# Altium schematic symbol library Maypole_V1.2.SCHLIB: 38 symbols
Pins are listed as number, name and electrical type; pins without a type are passive.

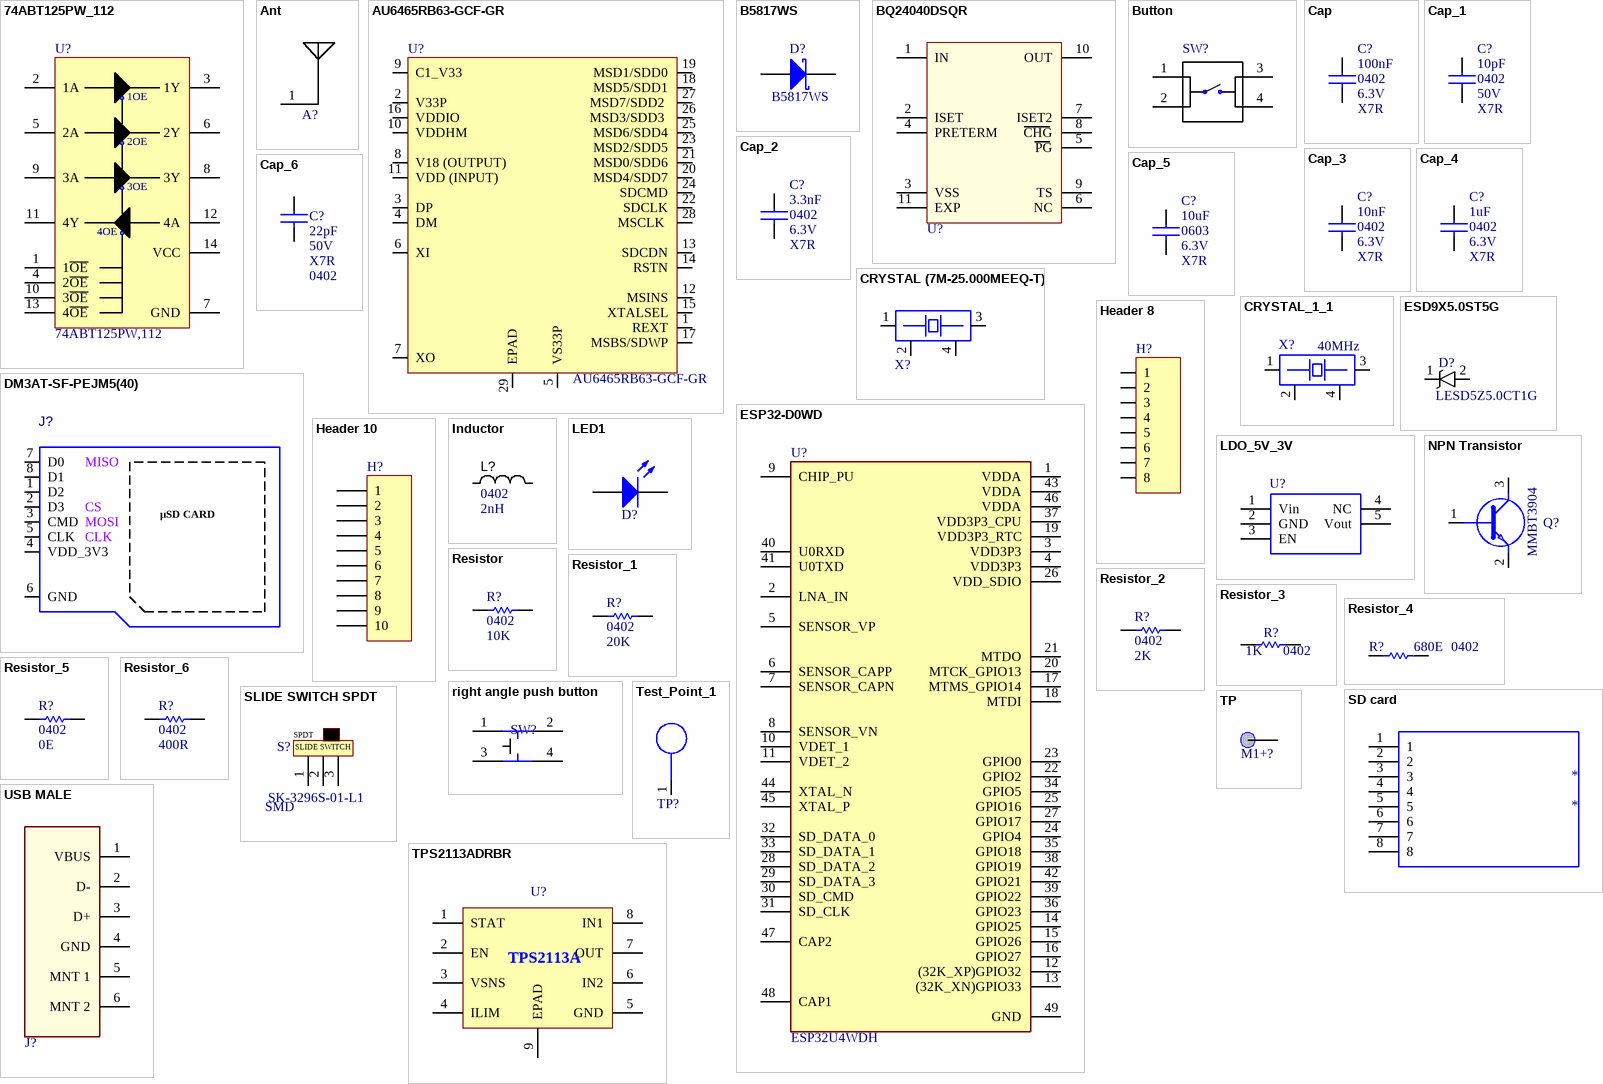
[diagram p0: symbols 74ABT125PW_112 to USB MALE]

## 74ABT125PW_112
designator U?  Manufacturer Part Number: 74ABT125PW,112
Buffers & Line Drivers QUAD BUFFER 3-S; Manufacturer_Name: Nexperia; Case/Package: 14-TSSOP
footprint 74ABT125PW
pins: 1 1~{OE}, 2 1A, 3 1Y, 4 2~{OE}, 5 2A, 6 2Y, 7 GND, 8 3Y, 9 3A, 10 3~{OE}, 11 4Y, 12 4A, 13 4~{OE}, 14 VCC
text: 1OE; 2OE; 3OE; 4OE

## Ant
designator A?  (value not drawn)
SMD,2.1x5.2mm Antennas ROHS; Manufacturer Part Number: SLDA52-2R710G-S1TF; Case/Package: SMD
footprint ANT-SMD_L5.2-W2.1
pins: 1 Ant

## AU6465RB63-GCF-GR
designator U?  Manufacturer Part Number: AU6465RB63-GCF-GR
Controller QFN-28-EP(5x5) USB ICs ROHS; Case/Package: QFN-28-EP(5x5)
footprint AU6465RB63-GCF-GR
pins: 1 REXT, 2 V33P, 3 DP, 4 DM, 5 VS33P , 6 XI, 7 XO, 8 V18 (OUTPUT), 9 C1_V33, 10 VDDHM, 11 VDD (INPUT), 12 MSINS, 13 SDCDN, 14 RSTN, 15 XTALSEL, 16 VDDIO , 17 MSBS/SDWP, 18 MSD5/SDD1, 19 MSD1/SDD0, 20 MSD4/SDD7, 21 MSD0/SDD6, 22 SDCLK, 23 MSD2/SDD5, 24 SDCMD, 25 MSD6/SDD4, 26 MSD3/SDD3 , 27 MSD7/SDD2 , 28 MSCLK , 29 EPAD

## B5817WS
designator D?  Manufacturer Part Number: B5817WS
20V 1A 450mV @ 1A SOD-323 Schottky Barrier Diodes (SBD) RoHS; Case/Package: SOD-323
footprint SOD-323
pins: A, K

## BQ24040DSQR
designator U?
IC BATT CHG LI-ION 1 CELL 10SON; Manufacturer: Texas Instruments; Manufacturer Part Number: BQ24040DSQR; Supplier 1: Digi-Key; Stock 1: 20950; Pricing 1: 1=1.26, 10=1.124, 25=1.0672, 100=0.8194, 250=0.7241, 500=0.686, 1000=0.5335 (USD); Number of Pins: 10; Case/Package: WSON-10; ComponentLink1URL: http://www.ti.com/lit/pdf/slyt420?src-supplier=Digi-Key; ComponentLink1Description: http://www.ti.com/lit/pdf/slyt420?src-supplier=Digi-Key; ComponentLink2URL: http://www.ti.com/general/docs/suppproductinfo.tsp?distId=10&gotoUrl=http%3A%2F%2Fwww.ti.com%2Flit%2Fgpn%2Fbq24040&src-supplier=Digi-Key; ComponentLink2Description: http://www.ti.com/general/docs/suppproductinfo.tsp?distId=10&gotoUrl=http%3A%2F%2Fwww.ti.com%2Flit%2Fgpn%2Fbq24040&src-supplier=Digi-Key; ComponentLink3URL: http://datasheet.iiic.cc/texas_instruments/BQ24040DSQR.pdf?src-supplier=IIIC; ComponentLink3Description: http://datasheet.iiic.cc/texas_instruments/BQ24040DSQR.pdf?src-supplier=IIIC
footprint WFDFN-10
pins: 1 IN, 2 ISET, 3 VSS, 4 PRETERM, 5 PG, 6 NC, 7 ISET2, 8 CHG, 9 TS, 10 OUT, 11 EXP

## Button
designator SW?
6mm 5mm Round Button 50mA Straight 6mm SPST 12V Plugin Tactile Switches ROHS; Manufacturer Part Number: TS-1809SM-C; Case/Package: SMD; Value: *
footprint SW_Micro Push Button 4 PAD
footprint TS-1809SM-C
pins: 1, 2, 3, 4

## Cap
designator C?  value 100nF  Voltage: 6.3V  Dielectric: X7R  Case/Package: 0402
CAP CER 100nF 6.3V X7R 0402; Manufacturer Part Number: *
simulation model CAP (Capacitor)
signal-integrity model Cap Pol
footprint CAPC0402
pins: 1, 2
1 alternate drawing of the same symbol

## Cap_1
designator C?  value 10pF  Voltage: 50V  Dielectric: X7R  Case/Package: 0402
CAP CER 10pF 50V X7R 0402; Manufacturer Part Number: *
simulation model CAP (Capacitor)
signal-integrity model Cap Pol
footprint CAPC0402
pins: 1, 2
1 alternate drawing of the same symbol

## Cap_2
designator C?  value 3.3nF  Voltage: 6.3V  Dielectric: X7R  Case/Package: 0402
CAP CER 3.3nF 6.3V X7R 0402; Manufacturer Part Number: *
simulation model CAP (Capacitor)
signal-integrity model Cap Pol
footprint CAPC0402
pins: 1, 2
1 alternate drawing of the same symbol

## Cap_3
designator C?  value 10nF  Voltage: 6.3V  Dielectric: X7R  Case/Package: 0402
CAP CER 10nF 6.3V X7R 0402; Manufacturer Part Number: *
simulation model CAP (Capacitor)
signal-integrity model Cap Pol
footprint CAPC0402
pins: 1, 2
1 alternate drawing of the same symbol

## Cap_4
designator C?  value 1uF  Voltage: 6.3V  Dielectric: X7R  Case/Package: 0402
CAP CER 1uF 6.3V X7R 0402; Manufacturer Part Number: *
simulation model CAP (Capacitor)
signal-integrity model Cap Pol
footprint CAPC0402
pins: 1, 2
1 alternate drawing of the same symbol

## Cap_5
designator C?  value 10uF  Voltage: 6.3V  Dielectric: X7R  Case/Package: 0603
CAP CER 10uF 6.3V X7R 0603; Manufacturer Part Number: *
simulation model CAP (Capacitor)
signal-integrity model Cap Pol
footprint CAPC0603
pins: 1, 2
1 alternate drawing of the same symbol

## Cap_6
designator C?  value 22pF  Voltage: 50V  Dielectric: X7R  Case/Package: 0402  (no BOM)
CAP CER 22pF 50V X7R 0402; Manufacturer Part Number: *; DNP: DNP
simulation model CAP (Capacitor)
signal-integrity model Cap Pol
footprint CAPC0402
pins: 1, 2
1 alternate drawing of the same symbol

## CRYSTAL (7M-25.000MEEQ-T)
designator X?  (no BOM)
12MHz ±25ppm Crystal 12pF 120 Ohms 4-SMD, No Lead; Manufacturer Part Number: ECS-120-20-33-TR; Case/Package: SMD/SMT; ComponentLink1URL: https://www.verical.com/server-webapp/html/getDatasheet?partID=757227&src-supplier=Verical; ComponentLink1Description: https://www.verical.com/server-webapp/html/getDatasheet?partID=757227&src-supplier=Verical; ComponentLink2URL: http://www.txccrystal.com/images/pdf/7m-accuracy.pdf?src-supplier=Digi-Key; ComponentLink2Description: http://www.txccrystal.com/images/pdf/7m-accuracy.pdf?src-supplier=Digi-Key; ComponentLink3URL: http://www.farnell.com/datasheets/1794111.pdf?src-supplier=Element14; ComponentLink3Description: http://www.farnell.com/datasheets/1794111.pdf?src-supplier=Element14; ComponentLink4URL: http://www.mouser.com/ds/2/417/7m-11184.pdf?src-supplier=Mouser; ComponentLink4Description: http://www.mouser.com/ds/2/417/7m-11184.pdf?src-supplier=Mouser; DNP: DNP
footprint CRYSTAL_3225 (3225 pack)
pins: 1, 2, 3, 4

## CRYSTAL_1_1
designator X?  Frequency: 40MHz
40MHz ±10ppm 10pF 30Ω SMD-3225 SMD Crystal Resonators RoHS; Manufacturer Part Number: 7M40000049; Case/Package: SMD-3225
footprint Crystal_3225 (3225 pack)
pins: 1, 2, 3, 4

## DM3AT-SF-PEJM5(40)
designator J?
Micro SD Memory Card Socket; Case/Package: SMD
footprint 473521001
pins: 1 D2, 2 D3, 3 CMD, 4 VDD_3V3, 5 CLK, 6 GND, 7 D0, 8 D1
text: MISO; CS; MOSI; μSD CARD

## ESD9X5.0ST5G
designator D?  Manufacturer Part Number: LESD5Z5.0CT1G
Bi-Directional 5V 18.6V 5.6V SOD-523 ESD Protection Devices ROHS; Case/Package: SOD-523-2
footprint SOD523
pins: 1 K, 2 A

## ESP32-D0WD
designator U?  Manufacturer Part Number: ESP32U4WDH
MCU Bluetooth, WiFi - 2.4GHz 48-QFN; Manufacturer: Espressif Systems; Case/Package: 48-QFN
footprint QFN48_5X5 (Esp32 dowd SoC)
pins: 1 VDDA (power), 2 LNA_IN, 3 VDD3P3 (power), 4 VDD3P3 (power), 5 SENSOR_VP, 6 SENSOR_CAPP, 7 SENSOR_CAPN, 8 SENSOR_VN, 9 CHIP_PU, 10 VDET_1, 11 VDET_2, 12 (32K_XP)GPIO32, 13 (32K_XN)GPIO33, 14 GPIO25, 15 GPIO26, 16 GPIO27, 17 MTMS_GPIO14, 18 MTDI, 19 VDD3P3_RTC (power), 20 MTCK_GPIO13, 21 MTDO, 22 GPIO2, 23 GPIO0, 24 GPIO4, 25 GPIO16, 26 VDD_SDIO (power), 27 GPIO17, 28 SD_DATA_2, 29 SD_DATA_3, 30 SD_CMD, 31 SD_CLK, 32 SD_DATA_0, 33 SD_DATA_1, 34 GPIO5, 35 GPIO18, 36 GPIO23, 37 VDD3P3_CPU (power), 38 GPIO19, 39 GPIO22, 40 U0RXD, 41 U0TXD, 42 GPIO21, 43 VDDA (power), 44 XTAL_N, 45 XTAL_P, 46 VDDA (power), 47 CAP2, 48 CAP1, 49 GND (power)

## Header 8
designator H?
Header, 08-Pin,2mm; Manufacturer Part Number: 1.27mm PITCH; LatestRevisionDate: 17-Jul-2002; Case/Package: TH
footprint HEADER_1X08_2.0
pins: 1, 2, 3, 4, 5, 6, 7, 8

## Header 10
designator H?
Header, 10-Pin,1.27mm; Manufacturer Part Number: 1.27mm PITCH; LatestRevisionDate: 17-Jul-2002; Case/Package: TH
footprint HEADER_1X10_2.0
pins: 1, 2, 3, 4, 5, 6, 7, 8, 9, 10

## Inductor
designator L?  Case/Package: 0402  Inductance: 2nH
2nH ±0.3nH 900mA 120mΩ 0402 Inductors (SMD) RoHS; Manufacturer 1: Murata; Manufacturer Part Number: LQG15HN2N0S02D; Description 1: Fixed Inductors 0402 2.0nH; Category 1: Fixed Inductors; Core Material: Air; DC Resistance (DCR): 120mR; Q Factor: 8; Shielding: Unshielded; Self Resonant Frequency: 6GHz; Test Frequency: 100MHz; Supplier 1: LCSC; Supplier Part Number 1: C97984; RoHS 1: Yes; Stock 1: 84500; Pricing 1: 50=0.00840, 500=0.00620, 1500=0.00580, 5000=0.00540, 25000=0.00520, 50000=0.00520, 50=0.00810, 500=0.00600, 1500=0.00560, 5000=0.00520, 25000=0.00500, 50000=0.00500, 50=0.04180, 500=0.03090, 1500=0.02890, 5000=0.02690, 25000=0.02600, 50000=0.02550, 50=0.03860, 500=0.02850, 1500=0.02670, 5000=0.02480, 25000=0.02400, 50000=0.02360, 50=0.00520, 500=0.00380, 1500=0.00360, 5000=0.00330, 25000=0.00320, 50000=0.00320, 50=0.00480, 500=0.00350, 1500=0.00330, 5000=0.00310, 25000=0.00300, 50000=0.00290, 50=0.04770, 500=0.03530, 1500=0.03300, 5000=0.03070, 25000=0.02970, 50000=0.02920, 50=0.65070, 500=0.48080, 1500=0.44960, 5000=0.41830, 25000=0.40450, 50000=0.39760, 50=0.02550, 500=0.01880, 1500=0.01760, 5000=0.01640, 25000=0.01580, 50000=0.01560, 50=0.46320, 500=0.34230, 1500=0.32010, 5000=0.29780, 25000=0.28800, 50000=0.28310, 50=0.05400, 500=0.03990, 1500=0.03730, 5000=0.03470, 25000=0.03360, 50000=0.03300, 50=0.00840, 500=0.00620, 1500=0.00580, 5000=0.00540, 25000=0.00520, 50000=0.00510, 50=0.00616, 500=0.00455, 1500=0.00426, 5000=0.00396, 25000=0.00383, 50000=0.00376 (AUD); Mount: Surface Mount; Number of Pins: 2; Case Code (Metric): 1005; Case Code (Imperial): 0402; Min Operating Temperature: -55°C; Max Operating Temperature: 125°C; Max DC Current: 900mA; Package Quantity: 10000; Current Rating: 900mA; Packaging: Tape and Reel; Current: 900mA; Termination: SMD/SMT; DC Current: 900mA; Length: 1mm; Height: 0.5mm; Width: 0.02inch; Height - Seated (Max): 0.022inch; Depth: 0.55mm; Radiation Hardening: No; REACH SVHC: No SVHC; Military Standard: Not; ComponentLink1URL: https://datasheet.ciiva.com/11799/0900766b8090d3b8-11799042.pdf?src-supplier=RSComponents; ComponentLink1Description: https://datasheet.ciiva.com/11799/0900766b8090d3b8-11799042.pdf?src-supplier=RSComponents; ComponentLink2URL: https://datasheet.ciiva.com/4976/o05e-4976477.pdf?src-supplier=Mouser; ComponentLink2Description: https://datasheet.ciiva.com/4976/o05e-4976477.pdf?src-supplier=Mouser; ComponentLink3URL: https://datasheet.ciiva.com/8510/l0075s0083lqg15hn-8510907.pdf?src-supplier=Avnet; ComponentLink3Description: https://datasheet.ciiva.com/8510/l0075s0083lqg15hn-8510907.pdf?src-supplier=Avnet; ComponentLink4URL: https://datasheet.ciiva.com/17279/l0075s0083lqg15hn-17279196.pdf?src-supplier=Avnet+Europe; ComponentLink4Description: https://datasheet.ciiva.com/17279/l0075s0083lqg15hn-17279196.pdf?src-supplier=Avnet+Europe
footprint IND_0402
pins: 1, 2

## LDO_5V_3V
designator U?
LDO Voltage Regulators 600mA CMOS LDO 50mA 3.3V 250mV; Manufacturer Part Number: AP2112K-3.3TRG1; Case/Package: SOT-23-5
footprint SOT25
footprint SOT25
pins: 1 Vin (power), 2 GND (power), 3 EN, 4 NC, 5 Vout (power)

## LED1
designator D?
LED, RED,SMD, 0603; Case/Package: 0603; Manufacturer Part Number: LED, RED,SMD, 0603
footprint LED_0603
pins: A, K

## NPN Transistor
designator Q?  Manufacturer Part Number: MMBT3904
Bipolar (BJT) Transistor NPN 40 V 200 mA 300MHz 350 mW Surface Mount SOT-23-3; Case/Package: SOT-23-3
footprint SOT23-3
pins: 1 B, 2 E, 3 C

## Resistor
designator R?  value 10K  Case/Package: 0402
Thick Film Resistor -  10Kohm, 1%, 0402
footprint RESC0402
pins: 1, 2

## Resistor_1
designator R?  value 20K  Case/Package: 0402
Thick Film Resistor -  20Kohm, 1%, 0402
footprint RESC0402
pins: 1, 2

## Resistor_2
designator R?  value 2K  Case/Package: 0402
Thick Film Resistor -  2Kohm, 1%, 0402
footprint RESC0402
pins: 1, 2

## Resistor_3
designator R?  value 1K  Case/Package: 0402
Thick Film Resistor -  1Kohm, 1%, 0402
footprint RESC0402
pins: 1, 2

## Resistor_4
designator R?  value 680E  Case/Package: 0402
Thick Film Resistor -  680ohm, 1%, 0402
footprint RESC0402
pins: 1, 2

## Resistor_5
designator R?  value 0E  Case/Package: 0402
Thick Film Resistor -  0ohm, 1%, 0402
footprint RESC0402
footprint RESC0402
pins: 1, 2

## Resistor_6
designator R?  value 400R  Case/Package: 0402
Thick Film Resistor -  400R, 1%, 0402
footprint RESC0402
pins: 1, 2

## right angle push button
designator SW?
pins: 1, 2, 3, 4

## SD card
designator *
pins: 1, 2, 3, 4, 5, 6, 7, 8

## SLIDE SWITCH SPDT
designator S?  Manufacturer Part Number: SK-3296S-01-L1  Case/Package: SMD
Surface Mount 50mA SPDT 12V 12V 50mA 10000次 Black SMD Slide Switches ROHS
footprint SK-3296S-01-L1
pins: 1, 2, 3
text: SPDT; SLIDE SWITCH

## Test_Point_1
designator TP?  (value not drawn)  (no BOM)
footprint Test_smd
footprint TP_TH
footprint TP (Tp)
footprint TP smd pad 1mm
footprint TP (Tp)
footprint TP (Tp)
pins: 1

## TP
designator M1+?  (no BOM)
connector
footprint TP Header - rectangle
pins: 1

## TPS2113ADRBR
designator U?
Power Switch ICs -Autoswitching Pwr Mux 3-mm × 3-mm SON-8; Manufacturer: Texas Instruments; Manufacturer Part Number: TPS2113ADRBR; Supplier 1: Digi-Key; RoHS: Yes; Category: Integrated Circuits (ICs); Stock 1: 3232; Pricing 1: 1=1.95000, 10=1.74900, 25=1.65000, 100=1.32000, 250=1.15500, 500=1.12200, 1000=0.89100 (USD); Case/Package: SON-8 (3X3); ComponentLink1URL: https://datasheet.ciiva.com/15109/getdatasheetpartid-627486-15109322.pdf?src-supplier=Verical; ComponentLink1Description: https://datasheet.ciiva.com/15109/getdatasheetpartid-627486-15109322.pdf?src-supplier=Verical; ComponentLink2URL: https://datasheet.ciiva.com/3232/tps2112a-3232522.pdf?src-supplier=Avnet; ComponentLink2Description: https://datasheet.ciiva.com/3232/tps2112a-3232522.pdf?src-supplier=Avnet; ComponentLink3URL: https://datasheet.ciiva.com/1961/tps2113a-1961004.pdf?src-supplier=Digi-Key; ComponentLink3Description: https://datasheet.ciiva.com/1961/tps2113a-1961004.pdf?src-supplier=Digi-Key
footprint SON-8
footprint Model Name (Model Description)
pins: 1 STAT, 2 EN, 3 VSNS, 4 ILIM, 5 GND, 6 IN2, 7 OUT, 8 IN1, 9 EPAD
text: TPS2113A

## USB MALE
designator J?
USB A-type Plug Male PCB R/A; Manufacturer Part Number: USB-05; Case/Package: TH
footprint Molex_48037-0001_0
pins: 1 VBUS, 2 D-, 3 D+, 4 GND, 5 MNT 1, 6 MNT 2